# Altium footprint library OL_0805RA_2012RA.pcblib: 1 footprints
Each footprint in its own frame and in the unit in brackets; x right, y up, seen from the top. Pads: shape width x height; smd on the part's side, far side on the other; paste and mask are expansions set on the pad; w line width, h text height; cw(c..) or ccw(c..) is an arc to the next point about the centre after c.
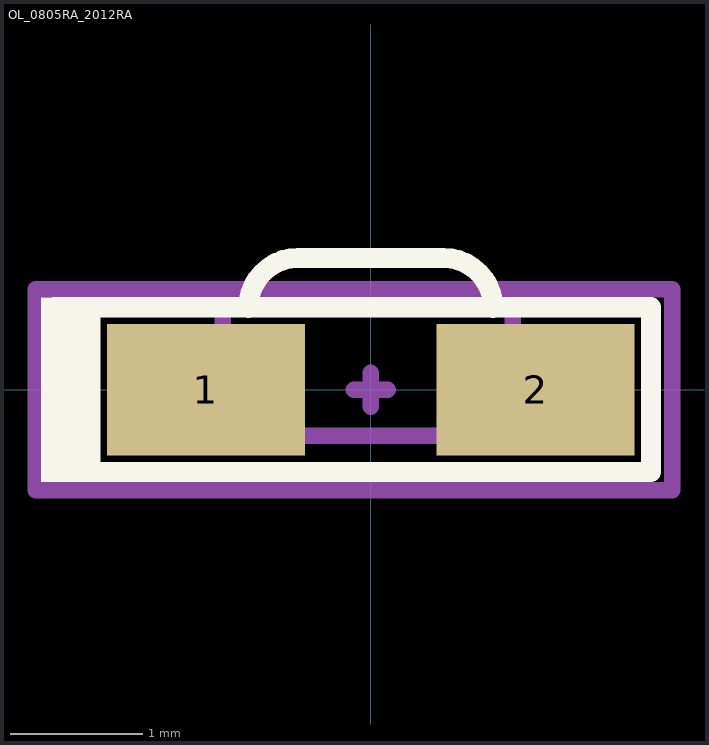
[diagram p0: the footprint, top view; thin cyan lines are the x and y axes]

## OL_0805RA_2012RA [mm]
pads (2):
  rect 1.5x1 smd: 1(-1.25,0) 2(1.25,0)
Top Overlay:
  rectangle: -2.5,-0.7 -2.05,0.7
  lines w0.152: -2.4,-0.625 2.125,-0.625 2.125,0.625 -2.4,0.625 ; -0.929,0.621 cw(c-0.55,0.621) -0.55,1 0.55,1 cw(c0.55,0.621) 0.929,0.621
Mechanical 13:
  lines w0.127: -1.123,-0.35 -1.123,0.762 1.077,0.762 1.077,-0.35 -1.123,-0.35
Mechanical 15:
  lines w0.127: -0.127,0 0.127,0 ; 0,-0.127 0,0.127 ; -2.54,-0.762 2.286,-0.762 2.286,0.762 -2.54,0.762 -2.54,-0.762
Mechanical 17:
  text "'.Designator'" at -1.143,-0.127 h0.25
Mechanical 19:
  text "'.Comment'" at -1.143,-0.127 h0.25
3D body "LED_SIDELED-2.1x0.6x1.0 WHITE maxtol.STEP": height 1, standoff 0.3, extent -1.123,-0.204 1.077,0.896